# Altium footprint library SOT23-3.PcbLib: 1 footprints
Each footprint in its own frame and in the unit in brackets; x right, y up, seen from the top. Pads: shape width x height; smd on the part's side, far side on the other; paste and mask are expansions set on the pad; w line width, h text height; cw(c..) or ccw(c..) is an arc to the next point about the centre after c.
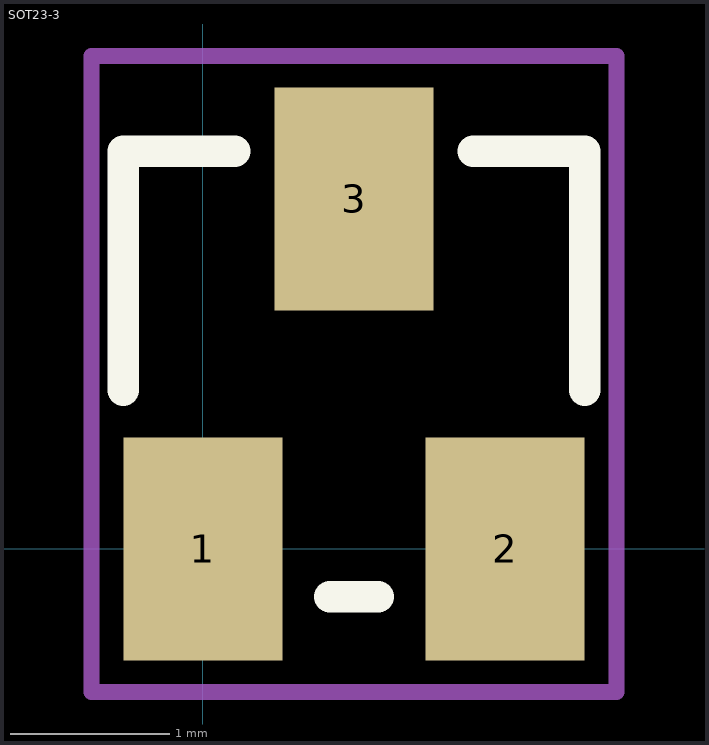
[diagram p0: the footprint, top view; thin cyan lines are the x and y axes]

## SOT23-3 [mm]
pads (3):
  rect 1x1.4 smd: 1(0,0) 2(1.9,0) 3(0.95,2.2)
Top Overlay:
  lines w0.2: -0.5,1 -0.5,2.5 0.2,2.5 ; 0.8,-0.3 1.1,-0.3 ; 1.7,2.5 2.4,2.5 2.4,1
Mechanical 15:
  lines w0.1: -0.7,-0.9 2.6,-0.9 2.6,3.1 -0.7,3.1 -0.7,-0.9
3D body "SOT23-3.step": height 1.3, standoff 0, extent -0.5,-0.325 2.4,2.475